# EAGLE library part PCA9547 (library NXP)
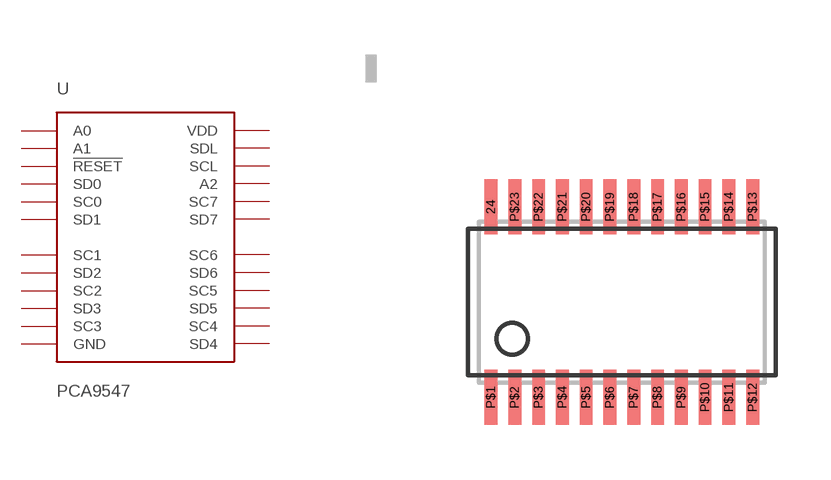
[diagram p39: symbol with the pads of PCA9547_TSSOP24; footprint PCA9547_TSSOP24]

Designator prefix U

## PCA9547TSSOP24  [PCA9547_TSSOP24]
24  VDD  pwr
P$1  A0  in
P$2  A1  in
P$3  !RESET  in
P$4  SD0  out
P$5  SC0  out
P$6  SD1  out
P$7  SC1  out
P$8  SD2  out
P$9  SC2  out
P$10  SD3  out
P$11  SC3  out
P$12  GND  pwr
P$13  SD4  out
P$14  SC4  out
P$15  SD5  out
P$16  SC5  out
P$17  SD6  out
P$18  SC6  out
P$19  SD7  out
P$20  SC7  out
P$21  SCL  in
P$22  SDL  in
P$23  A2  in

## Footprint PCA9547_TSSOP24 (pad centres in mm)
smd 0.35 x 1.5: 24 -3.575,2.6; P$1 -3.575,-2.6; P$2 -2.925,-2.6; P$3 -2.275,-2.6; P$4 -1.625,-2.6; P$5 -0.975,-2.6; P$6 -0.325,-2.6; P$7 0.325,-2.6; P$8 0.975,-2.6; P$9 1.625,-2.6; P$10 2.275,-2.6; P$11 2.925,-2.6; P$12 3.575,-2.6; P$13 3.575,2.6; P$14 2.925,2.6; P$15 2.275,2.6; P$16 1.625,2.6; P$17 0.975,2.6; P$18 0.325,2.6; P$19 -0.325,2.6; P$20 -0.975,2.6; P$21 -1.625,2.6; P$22 -2.275,2.6; P$23 -2.925,2.6